# EAGLE library part HEADER-2X5 (library IDC Edge Connector)
PIN HEADER
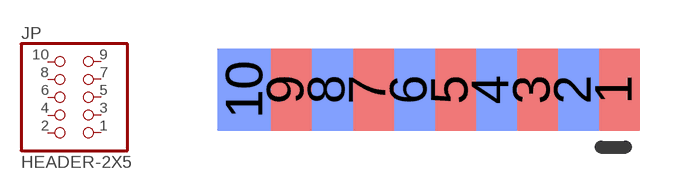
[diagram p1: symbol with the pads of 2X05_EDGE_OFFSET; footprint 2X05_EDGE_OFFSET]

Designator prefix JP

## HEADER-2X5IDC  [2X05_EDGE_OFFSET]
1  10  pas
2  9  pas
3  8  pas
4  7  pas
5  6  pas
6  5  pas
7  4  pas
8  3  pas
9  2  pas
10  1  pas

## Footprint 2X05_EDGE_OFFSET (pad centres in mm)
IDC Cable Connector
smd 1.651 x 2.54: 1 5.715,0; 3 3.175,0; 5 0.635,0; 7 -1.905,0; 9 -4.445,0
smd 1.651 x 2.54 bottom: 2 4.445,0; 4 1.905,0; 6 -0.635,0; 8 -3.175,0; 10 -5.715,0